# EAGLE library part PIC16F886 (library microchip)
PIC16F886 PIC16F886 product page <http://www.microchip.com/wwwproducts/en/PIC16F886> Datasheet <http://ww1.microchip.com/downloads/en/DeviceDoc/40001291H.pdf> This powerful yet easy-to-program (only 35 single word instructions) CMOS FLASH-based 8-bit microcontroller packs Microchip's powerful PIC® architecture into a 28 pin package.The PIC16F886 features 256 bytes of EEPROM data memory, self programming, an ICD, 2 Comparators, 11 channels of 10-bit Analog-to-Digital (A/D) converter, 1 capture/compare/PWM and 1 Enhanced capture/compare/PWM functions, a synchronous serial port that can be configured as either 3-wire Serial Peripheral Interface (SPI™) or the 2-wire Inter-Integrated Circuit (I²C™) bus and an Enhanced Universal Asynchronous Receiver Transmitter (EUSART). All of these features make it ideal for more advanced level A/D applications in automotive, industrial, appliances or consumer applications. Features Special Microcontroller Features: Precision Internal Oscillator: Factory calibrated to +/- 1% Software selectable frequency range of 8 MHz to 32 kHz Software tunable Two-Speed Start-Up mode Fail-safe clock monitoring for critical applications Clock mode switching during operation for low-power operation Power-Saving Sleep mode Power-on Reset (POR) Selectable Brown-out Reset (BOR) voltage Extended Watchdog Timer (WDT) with its own on-chip RC oscillator for reliable operation In-Circuit Serial Programming™ (ICSP™) via two pins In-Circuit Debug (ICD) via two pins High-endurance Flash/EEPROM cell: 100,000 erase/write cycle enhanced Flash program memory,typical 1,000,000 erase/write cycle data EEPROM memory, typical Data EEPROM retention > 40 years Self-reprogrammable under software control Programmable code protection Peripheral Features: Device Features: 1 input only pin 25 I/O High sink/source current 25 mA Interrupt-on-pin change option Timers: TMR0: 8-bit timer/counter with 8-bit prescaler TMR1 enhanced: 16-bit timer/counter with prescaler, External Gate Input mode and dedicated low-power 32 kHz oscillator TMR2: 8-bit timer/counter with 8-bit period register, prescaler and postscaler Capture/Compare/PWM (CCP) module Enhanced Capture/Compare/PWM (ECCP) module with auto-shutdown and PWM steering Master Synchronous Serial Port (MSSP) module SPI™ mode, I2C™ mode with address mask capability Enhanced Universal Synchronous Asynchronous Receiver Transmitter (EUSART) module: Supports RS-485, RS-232 and LIN compatibility Auto-Baud Detect Auto-wake-up on Start bit Ultra Low-Power Wake-up (ULPWU) Analog Features: 10-bit 11 channel Analog-to-Digital (A/D) Converter 2 Analog Comparator modules with: Programmable on-chip Voltage Reference (CVREF) module (% of VDD) Fixed 0.6 Vref Comparator inputs and outputs externally accessible SR Latch mode
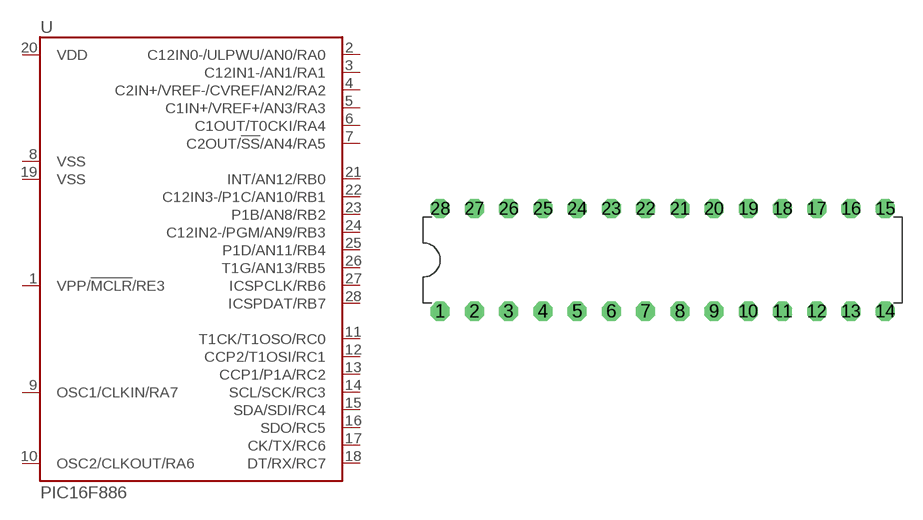
[diagram p3: symbol with the pads of DIL28N; footprint DIL28N]

Designator prefix U

## PIC16F886-I/SP  [DIL28N]
1  VPP/!MCLR!/RE3  in
2  C12IN0-/ULPWU/AN0/RA0
3  C12IN1-/AN1/RA1
4  C2IN+/VREF-/CVREF/AN2/RA2
5  C1IN+/VREF+/AN3/RA3
6  C1OUT/T0CKI/RA4
7  C2OUT/!SS!/AN4/RA5
8  VSS  pwr
9  OSC1/CLKIN/RA7  in
10  OSC2/CLKOUT/RA6  out
11  T1CK/T1OSO/RC0
12  CCP2/T1OSI/RC1
13  CCP1/P1A/RC2
14  SCL/SCK/RC3
15  SDA/SDI/RC4
16  SDO/RC5
17  CK/TX/RC6
18  DT/RX/RC7
19  VSS  pwr
20  VDD  pwr
21  INT/AN12/RB0
22  C12IN3-/P1C/AN10/RB1
23  P1B/AN8/RB2
24  C12IN2-/PGM/AN9/RB3
25  P1D/AN11/RB4
26  T1G/AN13/RB5
27  ICSPCLK/RB6
28  ICSPDAT/RB7

## Footprint DIL28N (pad centres in mm)
drill 0.813 pad 1.422 octagon: 1 -16.51,-3.81; 2 -13.97,-3.81; 3 -11.43,-3.81; 4 -8.89,-3.81; 5 -6.35,-3.81; 6 -3.81,-3.81; 7 -1.27,-3.81; 8 1.27,-3.81; 9 3.81,-3.81; 10 6.35,-3.81; 11 8.89,-3.81; 12 11.43,-3.81; 13 13.97,-3.81; 14 16.51,-3.81; 15 16.51,3.81; 16 13.97,3.81; 17 11.43,3.81; 18 8.89,3.81; 19 6.35,3.81; 20 3.81,3.81; 21 1.27,3.81; 22 -1.27,3.81; 23 -3.81,3.81; 24 -6.35,3.81; 25 -8.89,3.81; 26 -11.43,3.81; 27 -13.97,3.81; 28 -16.51,3.81